# EAGLE library part POTH_2 (library Pot1)
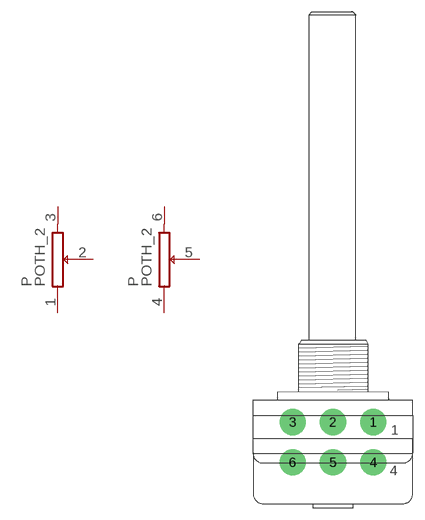
[diagram p1: symbol with the pads of POTH_2; footprint POTH_2]

Designator prefix P; gates G$1=POT_A G$2=POT_A

## POTH_2  [POTH_2]
1  G$1:1  pas
2  G$1:2  pas
3  G$1:3  pas
4  G$2:1  pas
5  G$2:2  pas
6  G$2:3  pas

## Footprint POTH_2 (pad centres in mm)
drill 0.813 pad 3.302 round: 1 5.08,3.81; 2 0,3.81; 3 -5.08,3.81; 4 5.08,-1.27; 5 0,-1.27; 6 -5.08,-1.27